# Altium footprint library PcbLib1.PcbLib: 202 footprints (part 12 of 13)
Each footprint in its own frame and in the unit in brackets; x right, y up, seen from the top. Pads: shape width x height; smd on the part's side, far side on the other; paste and mask are expansions set on the pad; w line width, h text height; cw(c..) or ccw(c..) is an arc to the next point about the centre after c.
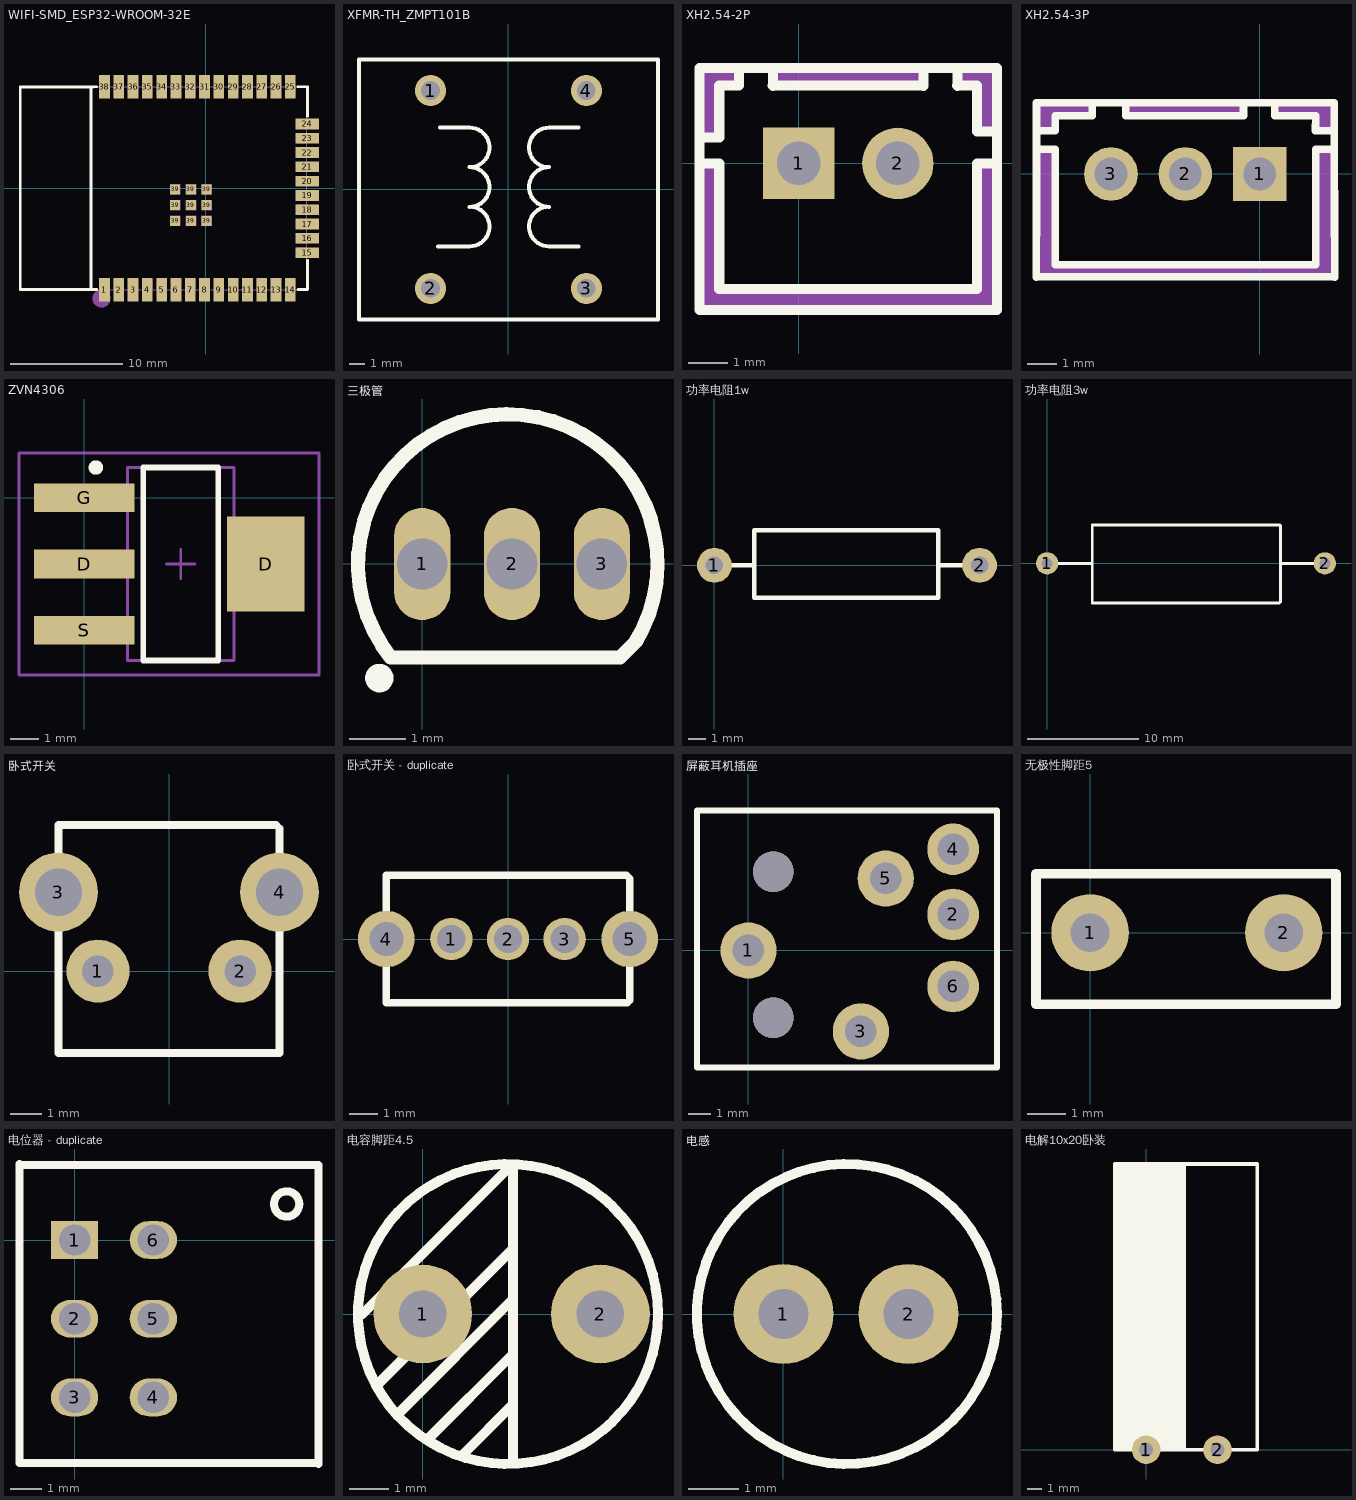
[diagram p11: the footprints below, top view; thin cyan lines are the x and y axes]

## WIFI-SMD_ESP32-WROOM-32E [mm]
pads (47):
  rect 0.95x2.1 smd: 1(-9.003,-9) 2(-7.733,-9) 3(-6.463,-9) 4(-5.193,-9) 5(-3.923,-9) 6(-2.653,-9) 7(-1.383,-9) 8(-0.113,-9) 9(1.157,-9) 10(2.427,-9) 11(3.697,-9) 12(4.967,-9) 13(6.237,-9) 14(7.507,-9) 25(7.507,9) 26(6.237,9) 27(4.967,9) 28(3.697,9) 29(2.427,9) 30(1.157,9) 31(-0.113,9) 32(-1.383,9) 33(-2.653,9) 34(-3.923,9) 35(-5.193,9) 36(-6.463,9) 37(-7.733,9) 38(-9.003,9)
  rect 2.1x0.95 smd: 15(9.003,-5.715) 16(9.003,-4.445) 17(9.003,-3.175) 18(9.003,-1.905) 19(9.003,-0.635) 20(9.003,0.635) 21(9.003,1.905) 22(9.003,3.175) 23(9.003,4.445) 24(9.003,5.715)
  rect 0.9x0.9 smd: 39(-2.722,-2.9) 39(-2.722,-1.5) 39(-2.722,-0.1) 39(-1.322,-2.9) 39(-1.322,-1.5) 39(-1.322,-0.1) 39(0.078,-2.9) 39(0.078,-1.5) 39(0.078,-0.1)
Top Overlay:
  lines w0.254: -10.193,9 -10.193,-9 -9.684,-9 ; -10.193,9.017 -9.684,9.017 ; -10.027,-9 -16.477,-9 -16.477,9 -10.011,9 ; 8.189,-9 9.023,-9 9.023,-6.396 ; 8.189,9.017 9.023,9.017 9.023,6.396
Mechanical 6:
  circle w0.8: c-9.264,-9.779 r0.4
Mechanical 15:
  drawing of 52 lines, arcs and shapes, not listed

## XFMR-TH_ZMPT101B [mm]
pads (4):
  round 2 hole 1.2 paste-2539.97 mask+0.05: 1(-5,6.35) 2(-5,-6.35) 3(5,-6.35) 4(5,6.35)
Top Overlay:
  lines w0.254: -4.52,-3.651 -2.488,-3.651 ccw(c-2.488,-2.381) -2.488,-1.111 ccw(c-2.488,0.159) -2.488,1.429 ccw(c-2.488,2.699) -2.488,3.969 -4.393,3.969 ; 4.497,-3.651 2.592,-3.651 cw(c2.592,-2.381) 2.592,-1.111 cw(c2.592,0.159) 2.592,1.429 cw(c2.592,2.699) 2.592,3.969 4.497,3.969 ; -9.6,-8.35 9.6,-8.35 9.6,8.35 -9.6,8.35 -9.6,-8.35
Mechanical 15:
  region: -9.54,8.35 -9.54,8.375 -9.575,8.41 -9.625,8.41 -9.66,8.375 -9.66,8.35 -9.66,8.325 -9.625,8.29 -9.575,8.29 -9.54,8.325
  region: 5.5,6.35 5.499,6.449 5.422,6.631 5.282,6.77 5.099,6.846 4.901,6.846 4.718,6.77 4.578,6.631 4.501,6.449 4.5,6.35 4.501,6.251 4.578,6.069 4.718,5.93 4.901,5.854 5.099,5.854 5.282,5.93 5.422,6.069 5.499,6.251
  region: 5.5,-6.35 5.499,-6.251 5.422,-6.069 5.282,-5.93 5.099,-5.854 4.901,-5.854 4.718,-5.93 4.578,-6.069 4.501,-6.251 4.5,-6.35 4.501,-6.449 4.578,-6.631 4.718,-6.77 4.901,-6.846 5.099,-6.846 5.282,-6.77 5.422,-6.631 5.499,-6.449
  region: -4.5,-6.35 -4.501,-6.251 -4.578,-6.069 -4.718,-5.93 -4.901,-5.854 -5.099,-5.854 -5.282,-5.93 -5.422,-6.069 -5.499,-6.251 -5.5,-6.35 -5.499,-6.449 -5.422,-6.631 -5.282,-6.77 -5.099,-6.846 -4.901,-6.846 -4.718,-6.77 -4.578,-6.631 -4.501,-6.449
  region: -4.5,6.35 -4.501,6.449 -4.578,6.631 -4.718,6.77 -4.901,6.846 -5.099,6.846 -5.282,6.77 -5.422,6.631 -5.499,6.449 -5.5,6.35 -5.499,6.251 -5.422,6.069 -5.282,5.93 -5.099,5.854 -4.901,5.854 -4.718,5.93 -4.578,6.069 -4.501,6.251
  lines w0.051: -9.6,-8.35 -9.6,8.35 9.6,8.35 9.6,-8.35 -9.6,-8.35

## XH2.54-2P [mm]
pads (2):
  rect 1.8x1.8 hole 1.1 mask+0.05: 1(0,0)
  round 1.8 hole 1.1 mask+0.05: 2(2.5,0)
Top Overlay:
  lines w0.254: -2.5,-2.416 -2.5,0 -2,0 -2,-2.416 -2,-3.167 4.5,-3.167 4.5,-2.344 4.5,0 5,0 5,-2.344 ; -2.5,-1.603 -2.5,0.648 -2,0.65 -2,1.958 -1.5,1.958 -1.5,2.408 ; -0.65,1.95 -0.65,2.4 ; -0.65,1.958 3.15,1.958 ; 3.15,1.95 3.15,2.4 ; 3.999,1.958 4.5,1.958 4.5,0.8 5,0.8 5,-1.501 ; 4,1.95 4,2.399 ; -2.5,-3.7 5,-3.7 5,2.4 -2.5,2.4 -2.5,-3.7
Mechanical 6:
  region: 4,1.95 4.491,1.95 4.5,1.958 4.5,0.8 5,0.8 5,2.4 4.001,2.4 4,2.399
  region: -1.5,1.9 -1.991,1.9 -2,1.908 -2,0.75 -2.5,0.75 -2.5,2.35 -1.501,2.35 -1.5,2.349
  region: 4.5,0 5,0 5,-3.7 -2.5,-3.7 -2.5,-0.05 -2,0 -2,-3.167 4.5,-3.167 4.5,0
  region: 3.15,2.4 3.15,1.9 -0.65,1.9 -0.65,2.4
Mechanical 15:
  region: 2.18,0.32 2.82,0.32 2.82,-0.32 2.18,-0.32
  region: -0.32,0.32 0.32,0.32 0.32,-0.32 -0.32,-0.32
  region: -2.44,-3.5 -2.44,-3.475 -2.475,-3.44 -2.525,-3.44 -2.56,-3.475 -2.56,-3.5 -2.56,-3.525 -2.525,-3.56 -2.475,-3.56 -2.44,-3.525
  lines w0.051: -2.5,-3.5 -2.5,2.4 5,2.4 5,-3.5 -2.5,-3.5

## XH2.54-3P [mm]
pads (3):
  rect 1.801x1.801 hole 1.1 mask+0.051: 1(0,0)
  round 1.801 hole 1.1 mask+0.051: 2(-2.499,0) 3(-4.999,0)
Top Overlay:
  lines w0.254: -7.508,-3.47 -7.501,2.4 2.499,2.4 2.52,-3.47 ; -7.508,-3.449 2.492,-3.449 ; -7.498,-2.05 -7.498,0.826 -6.873,0.826 -6.873,-3.051 1.877,-3.051 1.877,0.826 2.502,0.826 2.502,-2.093 ; -7.498,-1.234 -7.498,1.199 -7.498,1.45 -6.873,1.45 -6.873,1.951 -5.624,1.951 -5.624,2.4 ; -4.498,2.4 -4.498,1.951 -0.546,1.951 -0.546,2.4 ; 0.5,2.4 0.5,1.951 1.877,1.951 1.875,1.45 1.877,1.45 2.502,1.45 2.502,-1.209
Mechanical 6:
  region: -4.549,2.421 -0.559,2.421 -0.559,1.91 -4.549,1.91 -4.549,2.159
  region: -7.518,2.441 -5.639,2.441 -5.639,1.93 -6.85,1.93 -6.85,1.44 -7.518,1.44 -7.518,1.501
  region: 0.511,2.39 2.51,2.39 2.51,1.44 1.841,1.44 1.841,1.941 0.521,1.941 0.521,2.009
  region: -7.49,0.841 -6.85,0.841 -6.85,-2.969 1.89,-2.969 1.89,0.851 2.502,0.851 2.502,-3.429 -7.49,-3.429 -7.49,-2.72
Mechanical 15:
  region: 2.563,2.4 2.563,2.426 2.527,2.461 2.477,2.461 2.441,2.426 2.441,2.4 2.441,2.375 2.477,2.339 2.527,2.339 2.563,2.375
  region: -4.684,-0.315 -5.314,-0.315 -5.314,0.315 -4.684,0.315
  region: -2.184,-0.315 -2.814,-0.315 -2.814,0.315 -2.184,0.315
  region: 0.315,-0.315 -0.315,-0.315 -0.315,0.315 0.315,0.315
  lines w0.051: -7.498,-3.401 -7.498,2.4 2.502,2.4 2.502,-3.401 -7.498,-3.401

## ZVN4306 [mm] "SOT223, 4-Leads, Body 6.5x3.5mm, Pitch 2.3mm, Lead Span 7mm, IPC Low Density"
height 1.8
pads (4):
  rect 3.5x1 smd: D(0,-2.3) G(0,0) S(0,-4.6)
  rect 2.7x3.3 smd: D(6.3,-2.3)
Top Overlay:
  circle w0.25: c0.4,1.05 r0.125
  lines w0.2: 2.05,-5.65 4.65,-5.65 4.65,1.05 2.05,1.05 2.05,-5.65
Mechanical 13:
  lines w0.1: 1.5,-5.65 5.2,-5.65 5.2,1.05 1.5,1.05 1.5,-5.65
Mechanical 15:
  lines w0.1: 2.85,-2.3 3.85,-2.3 ; 3.35,-2.8 3.35,-1.8 ; -2.267,-6.15 8.15,-6.15 8.15,1.55 -2.267,1.55 -2.267,-6.15
3D body "SOT223.STEP": height 1.65, standoff 0, extent -0.401,-5.561 6.599,0.939

## 三极管 [mm]
pads (3):
  oval 1x2 hole 0.9: 1(0,0) 2(1.6,0) 3(3.2,0)
Top Overlay:
  circle w0.254: c-0.762,-2.032 r0.127
  lines w0.254: -0.559,-1.666 cw(c1.524,0) 3.8,-1.391 3.524,-1.666 -0.559,-1.666

## 功率电阻1w [mm]
pads (2):
  round 2 hole 1: 1(0,0) 2(15.2,0)
Top Overlay:
  lines w0.254: 0,0 2.286,0 2.286,2 12.827,2 12.827,0 15.2,0 ; 2.286,0.142 2.286,-1.858 12.827,-1.858 12.827,0.055

## 功率电阻3w [mm]
pads (2):
  round 2 hole 1: 1(0,0) 2(25,0)
Top Overlay:
  lines w0.254: 0,0 4,0 ; 20.918,-3.556 4.064,-3.556 4.064,3.444 20.944,3.444 21,3.388 21,0 25,0 ; 21,-3.474 21,0.026

## 卧式开关 [mm]
pads (4):
  round 2 hole 1: 1(-2.25,0) 2(2.25,0)
  round 2.5 hole 1.5: 3(-3.5,2.5) 4(3.5,2.5)
Top Overlay:
  lines w0.254: 3.388,4.628 -3.5,4.628 -3.5,2.5 -3.5,-2.596 3.485,-2.596 ; 3.5,-2.596 3.5,2.5 3.5,4.516

## 卧式开关 - duplicate [mm]
pads (5):
  round 1.5 hole 1: 1(-2,0) 2(0,0) 3(2,0)
  round 2 hole 1.2: 4(-4.3,0) 5(4.3,0)
Top Overlay:
  lines w0.254: 4.227,-2.25 -4.3,-2.25 -4.3,0 -4.3,2.25 4.191,2.25 4.3,2.141 4.3,0 4.3,-2.177

## 屏蔽耳机插座 [mm]
pads (6):
  round 2.5 hole 1.4: 1(0,0) 3(5,-3.6) 5(6.1,3.2)
  round 2.3 hole 1.4: 2(9.1,1.6) 4(9.1,4.5) 6(9.1,-1.6)
via 1.1,-3 diameter 1.8 hole 1.8
via 1.1,3.5 diameter 1.8 hole 1.8
Top Overlay:
  lines w0.254: -2.286,-5.207 11.049,-5.207 11.049,6.223 -2.286,6.223 -2.286,2.396 -2.286,-5.207

## 无极性脚距5 [mm]
pads (2):
  round 2 hole 1: 1(0,0) 2(5,0)
Top Overlay:
  lines w0.254: 6.279,-1.849 -1.397,-1.849 -1.397,1.524 6.35,1.524 ; 6.35,-1.849 6.35,1.468

## 电位器 - duplicate [mm]
pads (6):
  rect 1.5x1.2 hole 1: 1(0,0)
  oval 1.5x1.2 hole 1: 2(0,-2.5) 3(0,-5) 4(2.5,-5) 5(2.5,-2.5) 6(2.5,0)
Top Overlay:
  circle w0.254: c6.731,1.143 r0.402
  lines w0.254: -1.753,2.388 7.747,2.388 7.747,-7.112 ; -1.753,2.413 -1.753,-7.087 7.722,-7.087

## 电容脚距4.5 [mm]
pads (2):
  round 2.5 hole 1.2: 1(0,0) 2(4.5,0)
Top Overlay:
  circle w0.254: c2.159,0 r3.8
  lines w0.254: -1.524,0 2.159,3.683 2.286,3.683 2.286,-3.683 ; -1.143,-1.778 2.286,1.651 2.286,0.381 -0.572,-2.476 ; 0.127,-3.175 2.286,-1.016 2.286,-0.508 ; 1.016,-3.556 2.286,-2.286 2.286,-1.778

## 电感 [mm]
pads (2):
  round 2 hole 1: 1(0,0) 2(2.5,0)
Top Overlay:
  circle w0.2: c1.27,0 r3

## 电解10x20卧装 [mm]
pads (2):
  round 2 hole 1: 1(0,0) 2(5,0)
Top Overlay:
  rectangle: -2.206,0 2.794,20
  lines w0.254: -2.206,0 2.794,0 7.794,0 7.794,20 -2.206,20 -2.206,0